# Altium footprint library CONECTER.PcbLib: 145 footprints (part 4 of 10)
Each footprint in its own frame and in the unit in brackets; x right, y up, seen from the top. Pads: shape width x height; smd on the part's side, far side on the other; paste and mask are expansions set on the pad; w line width, h text height; cw(c..) or ccw(c..) is an arc to the next point about the centre after c.
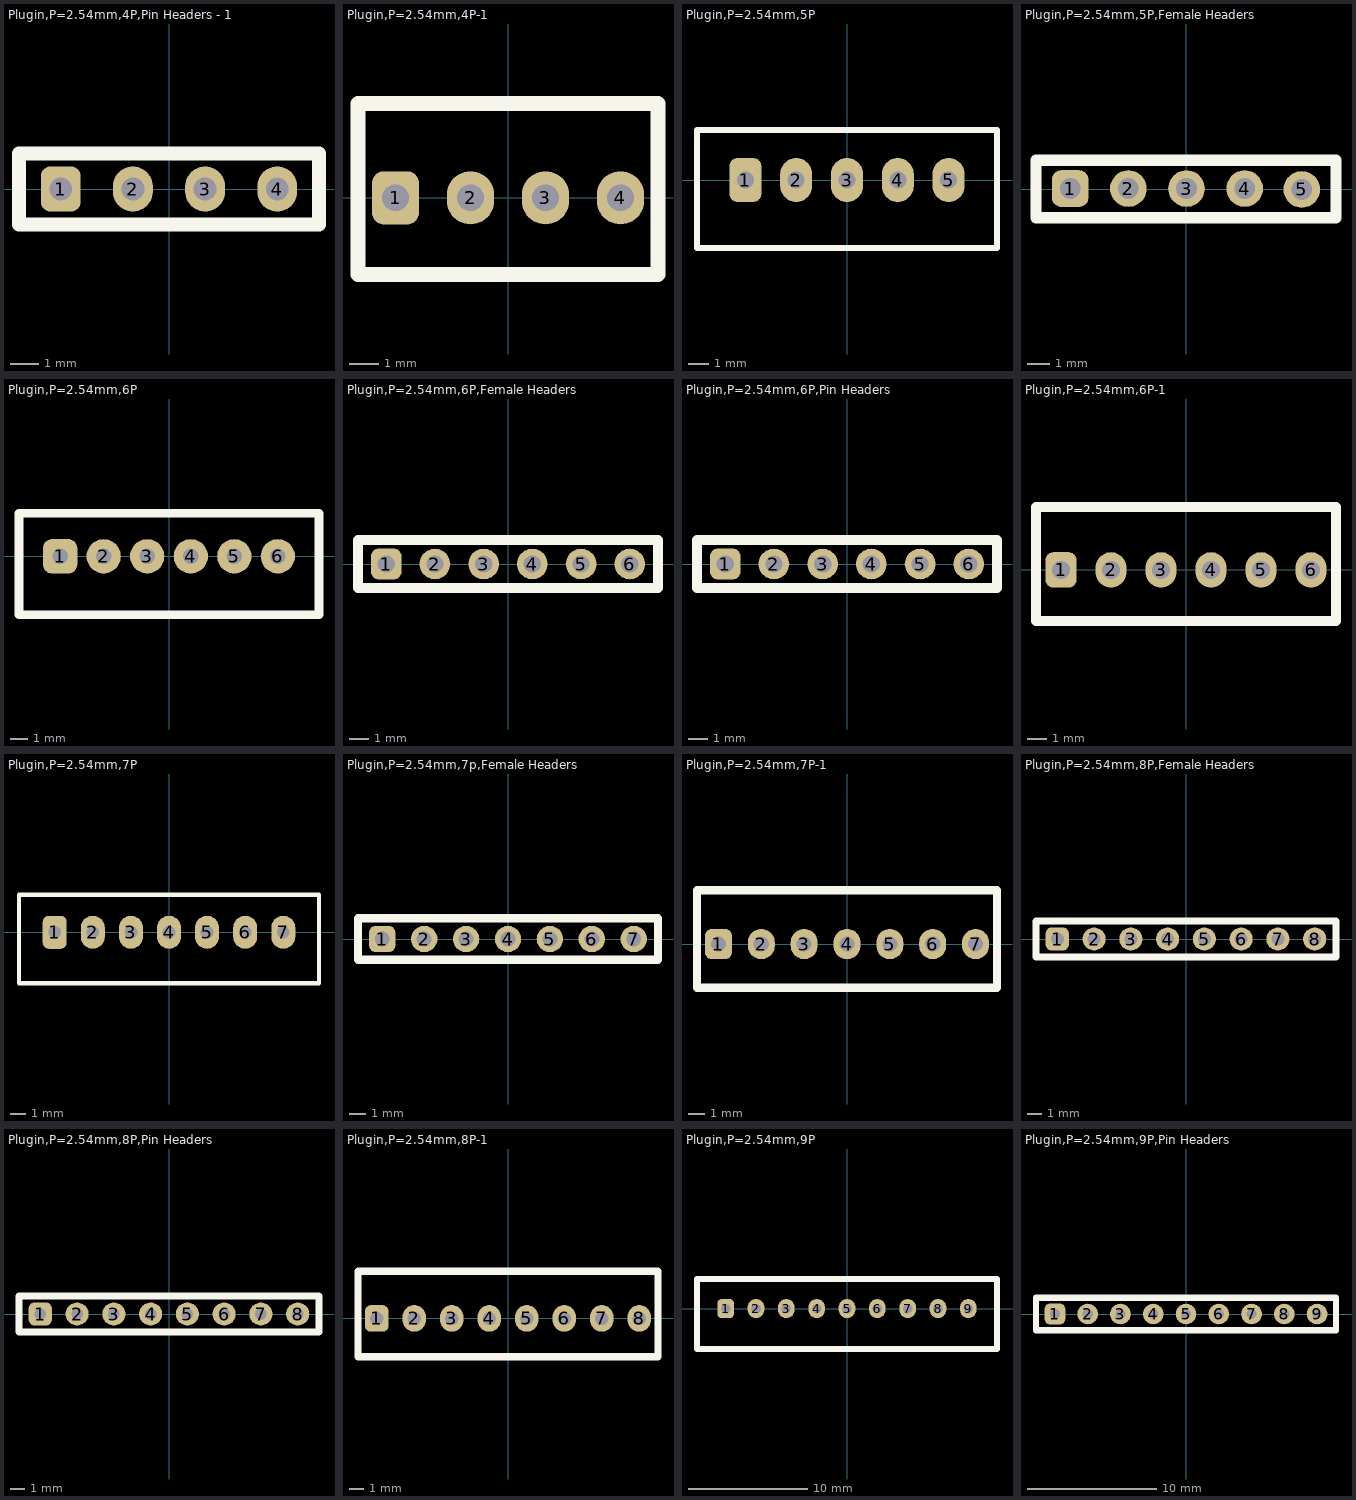
[diagram p3: the footprints below, top view; thin cyan lines are the x and y axes]

## Plugin,P=2.54mm,4P,Pin Headers - 1 [mm]
pads (4):
  rrect50% 1.4x1.6 hole 0.8 mask+0.15: 1(-3.81,0)
  oval 1.4x1.6 hole 0.8 mask+0.15: 2(-1.27,0) 3(1.27,0) 4(3.81,0)
Top Overlay:
  lines w0.5: -5.28,-1.25 -5.28,1.25 5.28,1.25 5.28,-1.25 -5.28,-1.25
3D body "77311-119-04LF.STEP": height 15.37, standoff -3.03, extent -5.08,-1.2 5.08,1.2

## Plugin,P=2.54mm,4P-1 [mm]
pads (4):
  rrect50% 1.6x1.8 hole 0.9: 1(-3.81,0)
  oval 1.6x1.8 hole 0.9: 2(-1.27,0) 3(1.27,0) 4(3.81,0)
Top Overlay:
  lines w0.5: -5.08,-2.6 -5.08,3.2 5.08,3.2 5.08,-2.6 -5.08,-2.6
3D body "640456-4.STEP": height 10.03, standoff -3.94, extent -5.08,-2.54 5.08,3.175

## Plugin,P=2.54mm,5P [mm]
pads (5):
  rrect50% 1.6x2.2 hole 0.85 mask+0.1: 1(-5.08,0)
  oval 1.6x2.2 hole 0.85 mask+0.1: 2(-2.54,0) 3(0,0) 4(2.54,0) 5(5.08,0)
Top Overlay:
  lines w0.3: -7.5,-3.4 7.5,-3.4 7.5,2.5 -7.5,2.5 -7.5,-3.4
3D body "User Library-XH2_54-5P-1.STEP": height 7, standoff -1.8, extent -7.52,-3.4 7.52,2.4

## Plugin,P=2.54mm,5P,Female Headers [mm]
pads (5):
  rrect50% 1.6x1.6 hole 0.9: 1(-5.057,0.019)
  round 1.6 hole 0.9: 2(-2.517,0.019) 3(0.023,0.019) 4(2.563,0.019) 5(5.057,-0.019)
Top Overlay:
  lines w0.5: -6.55,-1.25 -6.55,1.25 6.55,1.25 6.55,-1.25 -6.55,-1.25
3D body "FH01-05SS.stp": height 8.5, standoff -3.2, extent -6.35,-1.25 6.35,1.25

## Plugin,P=2.54mm,6P [mm]
pads (6):
  rrect50% 2x2 hole 0.9 mask+0.1: 1(-6.35,0)
  round 2 hole 0.9 mask+0.1: 2(-3.81,0) 3(-1.27,0) 4(1.27,0) 5(3.81,0) 6(6.35,0)
Top Overlay:
  lines w0.5: -8.75,-3.4 -8.75,2.5 8.75,2.5 8.75,-3.4 -8.75,-3.4
3D body "User Library-XH2_54-6P.STEP": height 7, standoff -2.5, extent -8.85,-3.2 8.85,2.5

## Plugin,P=2.54mm,6P,Female Headers [mm]
pads (6):
  rrect50% 1.6x1.6 hole 0.9: 1(-6.35,0)
  round 1.6 hole 0.9: 2(-3.81,0) 3(-1.27,0) 4(1.27,0) 5(3.81,0) 6(6.35,0)
Top Overlay:
  lines w0.5: -7.82,-1.25 -7.82,1.25 7.82,1.25 7.82,-1.25 -7.82,-1.25
3D body "FH01-06SS.stp": height 8.5, standoff -3.2, extent -7.62,-1.25 7.62,1.25

## Plugin,P=2.54mm,6P,Pin Headers [mm]
pads (6):
  rrect50% 1.6x1.6 hole 0.9: 1(-6.35,0)
  round 1.6 hole 0.9: 2(-3.81,0) 3(-1.27,0) 4(1.27,0) 5(3.81,0) 6(6.35,0)
Top Overlay:
  lines w0.5: -7.82,-1.25 -7.82,1.25 7.82,1.25 7.82,-1.25 -7.82,-1.25
3D body "6-Pin Header - Male - 2.54mm.step": height 8.89, standoff -3.05, extent -7.62,-1.25 7.62,1.29

## Plugin,P=2.54mm,6P-1 [mm]
pads (6):
  rrect50% 1.6x1.8 hole 0.9: 1(-6.35,0)
  oval 1.6x1.8 hole 0.9: 2(-3.81,0) 3(-1.27,0) 4(1.27,0) 5(3.81,0) 6(6.35,0)
Top Overlay:
  lines w0.5: -7.62,-2.6 7.62,-2.6 7.62,3.2 -7.62,3.2 -7.62,-2.6
3D body "640456-6.STEP": height 10.03, standoff -3.94, extent -7.62,-2.54 7.62,3.175

## Plugin,P=2.54mm,7P [mm]
pads (7):
  rrect50% 1.6x2.2 hole 0.85 mask+0.1: 1(-7.62,0)
  oval 1.6x2.2 hole 0.85 mask+0.1: 2(-5.08,0) 3(-2.54,0) 4(0,0) 5(2.54,0) 6(5.08,0) 7(7.62,0)
Top Overlay:
  lines w0.3: -10,-3.4 10,-3.4 10,2.5 -10,2.5 -10,-3.4
3D body "User Library-XH2_54-7P.STEP": height 7, standoff -2.5, extent -10.12,-3.3 10.12,2.4

## Plugin,P=2.54mm,7p,Female Headers [mm]
pads (7):
  rrect50% 1.6x1.6 hole 0.9: 1(-7.62,0)
  round 1.6 hole 0.9: 2(-5.08,0) 3(-2.54,0) 4(0,0) 5(2.54,0) 6(5.08,0) 7(7.62,0)
Top Overlay:
  lines w0.5: -9.09,-1.25 -9.09,1.25 9.09,1.25 9.09,-1.25 -9.09,-1.25
3D body "FH01-07SS.stp": height 8.5, standoff -3.2, extent -8.89,-1.25 8.89,1.25

## Plugin,P=2.54mm,7P-1 [mm]
pads (7):
  rrect50% 1.6x1.8 hole 0.9: 1(-7.62,0)
  oval 1.6x1.8 hole 0.9: 2(-5.08,0) 3(-2.54,0) 4(0,0) 5(2.54,0) 6(5.08,0) 7(7.62,0)
Top Overlay:
  lines w0.5: -8.89,-2.6 -8.89,3.2 8.89,3.2 8.89,-2.6 -8.89,-2.6
3D body "640456-7.STEP": height 10.03, standoff -3.94, extent -8.89,-2.54 8.89,3.175

## Plugin,P=2.54mm,8P,Female Headers [mm]
pads (8):
  rrect50% 1.6x1.6 hole 0.9: 1(-8.89,0)
  round 1.6 hole 0.9: 2(-6.35,0) 3(-3.81,0) 4(-1.27,0) 5(1.27,0) 6(3.81,0) 7(6.35,0) 8(8.89,0)
Top Overlay:
  lines w0.5: -10.36,-1.25 10.36,-1.25 10.36,1.25 -10.36,1.25 -10.36,-1.25
3D body "FH01-08SS.stp": height 8.5, standoff -3.2, extent -10.16,-1.25 10.16,1.25

## Plugin,P=2.54mm,8P,Pin Headers [mm]
pads (8):
  rrect50% 1.6x1.6 hole 0.8 mask+0.15: 1(-8.89,0)
  round 1.6 hole 0.8 mask+0.15: 2(-6.35,0) 3(-3.81,0) 4(-1.27,0) 5(1.27,0) 6(3.81,0) 7(6.35,0) 8(8.89,0)
Top Overlay:
  lines w0.5: -10.36,-1.25 -10.36,1.25 10.36,1.25 10.36,-1.25 -10.36,-1.25
3D body "8-Pin Header - Male - 2.54mm.step": height 8.89, standoff -3.05, extent -10.16,-1.29 10.16,1.25

## Plugin,P=2.54mm,8P-1 [mm]
pads (8):
  rrect50% 1.6x1.8 hole 0.9: 1(-8.89,0)
  oval 1.6x1.8 hole 0.9: 2(-6.35,0) 3(-3.81,0) 4(-1.27,0) 5(1.27,0) 6(3.81,0) 7(6.35,0) 8(8.89,0)
Top Overlay:
  lines w0.5: -10.16,-2.6 -10.16,3.2 10.16,3.2 10.16,-2.6 -10.16,-2.6
3D body "640456-8.STEP": height 10.03, standoff -3.94, extent -10.16,-2.54 10.16,3.175

## Plugin,P=2.54mm,9P [mm]
pads (9):
  rrect50% 1.4x1.6 hole 0.8 mask+0.1: 1(-10.16,0)
  oval 1.4x1.6 hole 0.8 mask+0.1: 2(-7.62,0) 3(-5.08,0) 4(-2.54,0) 5(0,0) 6(2.54,0) 7(5.08,0) 8(7.62,0) 9(10.16,0)
Top Overlay:
  lines w0.5: -12.56,-3.4 -12.56,2.5 12.56,2.5 12.56,-3.4 -12.56,-3.4
3D body "JST - XH - Thru (V) - 9Pin - 2.54mm.stp": height 7.21, standoff -3, extent -12.497,-3.353 12.497,2.489

## Plugin,P=2.54mm,9P,Pin Headers [mm]
pads (9):
  rrect50% 1.6x1.6 hole 0.8 mask+0.15: 1(-10.16,0)
  round 1.6 hole 0.8 mask+0.15: 2(-7.62,0) 3(-5.08,0) 4(-2.54,0) 5(0,0) 6(2.54,0) 7(5.08,0) 8(7.62,0) 9(10.16,0)
Top Overlay:
  lines w0.5: -11.63,-1.25 11.63,-1.25 11.63,1.25 -11.63,1.25 -11.63,-1.25
3D body "9-Pin Header - Male - 2.54mm.step": height 8.89, standoff -3.05, extent -11.43,-1.29 11.43,1.25